# EAGLE library part IC_LM4910 (library dp_devices)
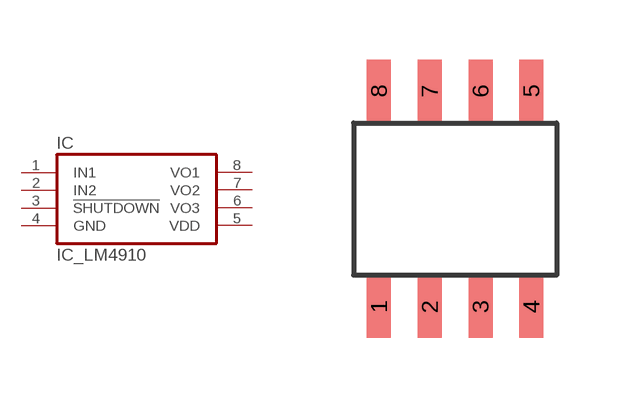
[diagram p45: symbol with the pads of SO-8; footprint SO-8]

Designator prefix IC

## IC_LM4910-SO-8  [SO-8]
1  IN1  in
2  IN2  in
3  !SHUTDOWN  in
4  GND  pwr
5  VDD  pwr
6  VO3  out
7  VO2  out
8  VO1  out

## Footprint SO-8 (pad centres in mm)
smd 0.6 x 1.55: 1 -1.905,-2.69; 2 -0.635,-2.69; 3 0.635,-2.69; 4 1.905,-2.69; 5 1.905,2.71; 6 0.635,2.71; 7 -0.635,2.71; 8 -1.905,2.71